# EAGLE library part LAN83C185 (library IC)
SMSC LAN83C185 High Performance , Low Power 10/100 Ethernet PHY
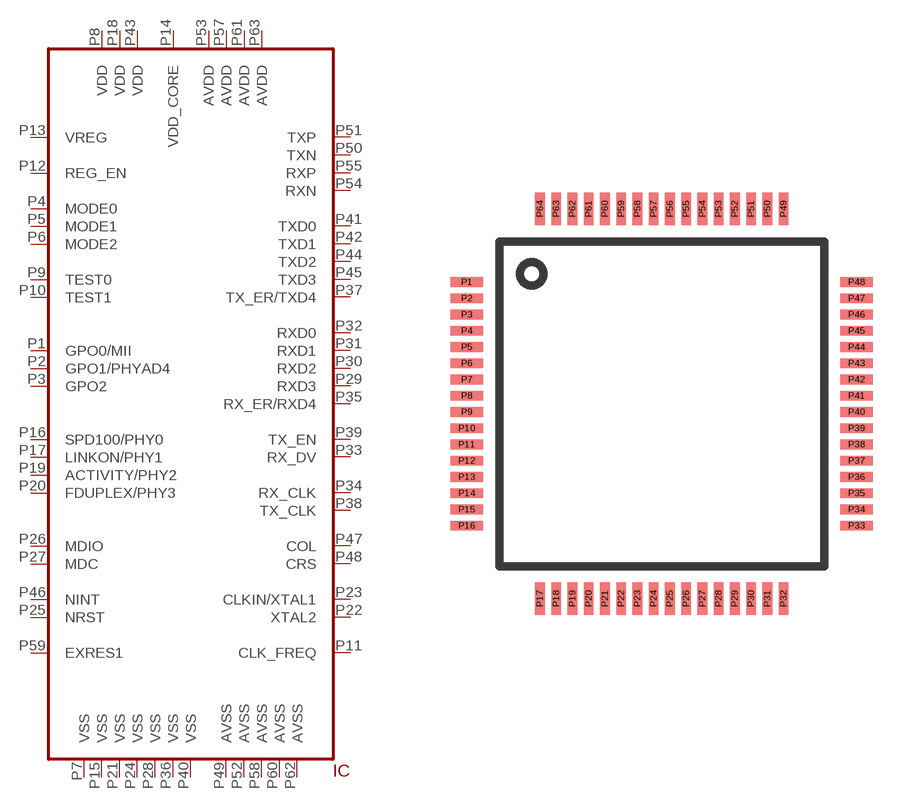
[diagram p86: symbol with the pads of TQFP64-0.5; footprint TQFP64-0.5]

Designator prefix IC

## LAN83C185  [TQFP64-0.5]
P1  GPO0/MII
P2  GPO1/PHYAD4  in
P3  GPO2
P4  MODE0  in
P5  MODE1  in
P6  MODE2  in
P7  VSS  pwr
P8  VDD  pwr
P9  TEST0  in
P10  TEST1  in
P11  CLK_FREQ
P12  REG_EN  in
P13  VREG  pwr
P14  VDD_CORE  pwr
P15  VSS  pwr
P16  SPD100/PHY0  out
P17  LINKON/PHY1  out
P18  VDD  pwr
P19  ACTIVITY/PHY2  out
P20  FDUPLEX/PHY3  out
P21  VSS  pwr
P22  XTAL2
P23  CLKIN/XTAL1
P24  VSS  pwr
P25  NRST  in
P26  MDIO
P27  MDC  in
P28  VSS  pwr
P29  RXD3  out
P30  RXD2  out
P31  RXD1  out
P32  RXD0  out
P33  RX_DV  out
P34  RX_CLK  out
P35  RX_ER/RXD4  out
P36  VSS  pwr
P37  TX_ER/TXD4  in
P38  TX_CLK  out
P39  TX_EN  in
P40  VSS  pwr
P41  TXD0  in
P42  TXD1  in
P43  VDD  pwr
P44  TXD2  in
P45  TXD3  in
P46  NINT  out
P47  COL  out
P48  CRS  out
P49  AVSS  pwr
P50  TXN
P51  TXP
P52  AVSS  pwr
P53  AVDD  pwr
P54  RXN
P55  RXP
P57  AVDD  pwr
P58  AVSS  pwr
P59  EXRES1  in
P60  AVSS  pwr
P61  AVDD  pwr
P62  AVSS  pwr
P63  AVDD  pwr

## Footprint TQFP64-0.5 (pad centres in mm)
64 pin TQFP package with 0.5mm pitch
smd 1 x 0.3: P1 -6,3.75; P2 -6,3.25; P3 -6,2.75; P4 -6,2.25; P5 -6,1.75; P6 -6,1.25; P7 -6,0.75; P8 -6,0.25; P9 -6,-0.25; P10 -6,-0.75; P11 -6,-1.25; P12 -6,-1.75; P13 -6,-2.25; P14 -6,-2.75; P15 -6,-3.25; P16 -6,-3.75; P33 6,-3.75; P34 6,-3.25; P35 6,-2.75; P36 6,-2.25; P37 6,-1.75; P38 6,-1.25; P39 6,-0.75; P40 6,-0.25; P41 6,0.25; P42 6,0.75; P43 6,1.25; P44 6,1.75; P45 6,2.25; P46 6,2.75; P47 6,3.25; P48 6,3.75
smd 0.3 x 1: P17 -3.75,-6; P18 -3.25,-6; P19 -2.75,-6; P20 -2.25,-6; P21 -1.75,-6; P22 -1.25,-6; P23 -0.75,-6; P24 -0.25,-6; P25 0.25,-6; P26 0.75,-6; P27 1.25,-6; P28 1.75,-6; P29 2.25,-6; P30 2.75,-6; P31 3.25,-6; P32 3.75,-6; P49 3.75,6; P50 3.25,6; P51 2.75,6; P52 2.25,6; P53 1.75,6; P54 1.25,6; P55 0.75,6; P56 0.25,6; P57 -0.25,6; P58 -0.75,6; P59 -1.25,6; P60 -1.75,6; P61 -2.25,6; P62 -2.75,6; P63 -3.25,6; P64 -3.75,6